# Altium schematic symbol library SCH - POWER - LINEAR VREG - TI TLV7041DPW.SchLib: 1 symbol
Pins are listed as number, name and electrical type; pins without a type are passive.

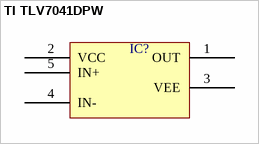
[diagram p0: symbol TI TLV7041DPW]

## TI TLV7041DPW
designator IC?  (value not drawn)
pins: 1 OUT, 2 VCC, 3 VEE, 4 IN-, 5 IN+